# Altium footprint library PcbLib1.PcbLib: 5 footprints
Each footprint in its own frame and in the unit in brackets; x right, y up, seen from the top. Pads: shape width x height; smd on the part's side, far side on the other; paste and mask are expansions set on the pad; w line width, h text height; cw(c..) or ccw(c..) is an arc to the next point about the centre after c.
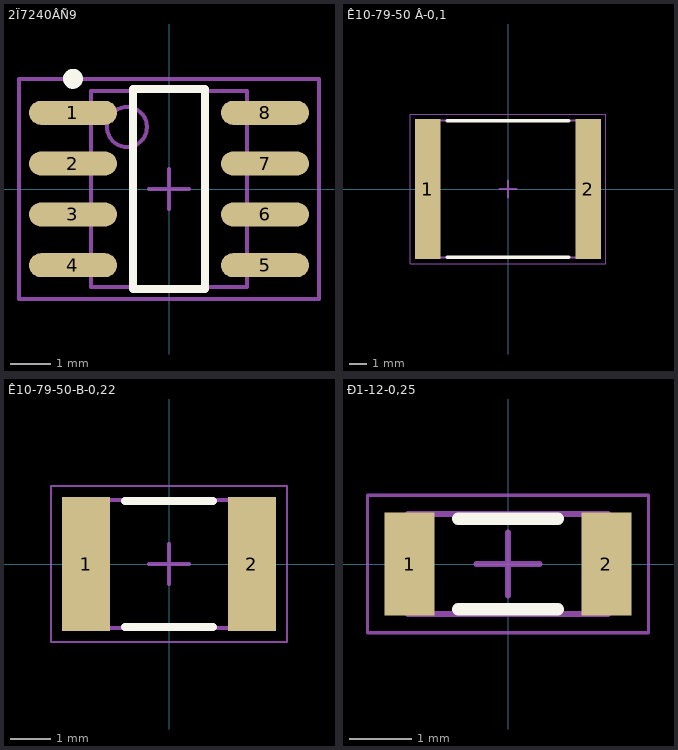
[diagram p0: the footprints below, top view; thin cyan lines are the x and y axes]

## 2Ï7240ÂÑ9 [mm] "8-Pin Small Outline Integrated Circuit 1.27 mm Pitch, IPC Medium Density"
height 1.73
pads (8):
  oval 2.2x0.6 smd: 1(-2.4,1.905) 2(-2.4,0.635) 3(-2.4,-0.635) 4(-2.4,-1.905) 5(2.4,-1.905) 6(2.4,-0.635) 7(2.4,0.635) 8(2.4,1.905)
Top Overlay:
  circle w0.25: c-2.4,2.755 r0.125
  lines w0.2: -0.9,-2.5 -0.9,2.5 0.9,2.5 0.9,-2.5 -0.9,-2.5
Mechanical 13:
  circle w0.1: c-1.05,1.55 r0.5
  lines w0.1: -1.95,-2.45 -1.95,2.45 1.95,2.45 1.95,-2.45 -1.95,-2.45
Mechanical 15:
  lines w0.1: -0.5,0 0.5,0 ; 0,-0.5 0,0.5 ; -3.75,-2.75 -3.75,2.75 3.75,2.75 3.75,-2.75 -3.75,-2.75
3D body: height 1.73, standoff 0, extent -1.95,-2.45 1.95,2.45

## PCBComponent_1 [mm]

## Ê10-79-50 Â-0,1 [mm] "Chip Capacitor, 2-Leads, Body 10,00x8,00mm, IPC Medium Density"
height 1.5
pads (2):
  rect 1.5x8.15 smd: 1(-4.675,0) 2(4.675,0)
Top Overlay:
  lines w0.2: -3.55,-3.975 3.55,-3.975 ; -3.55,3.975 3.55,3.975
Mechanical 13:
  lines w0.1: -5,-4 5,-4 5,4 -5,4 -5,-4
Mechanical 15:
  lines w0.05: -5.7,-4.35 5.7,-4.35 5.7,4.35 -5.7,4.35 -5.7,-4.35
  lines w0.1: -0.5,0 0.5,0 ; 0,-0.5 0,0.5
3D body: height 2, standoff 0, extent 4,-4 5,4
3D body: height 2, standoff 0, extent -5,-4 -4,4
3D body: height 2, standoff 0, extent -4,-4 4,4

## Ê10-79-50-B-0,22 [mm] "Chip Capacitor, 2-Leads, Body 4,50x3,20mm, IPC Medium Density"
height 0.3
pads (2):
  rect 1.2x3.35 smd: 1(-2.075,0) 2(2.075,0)
Top Overlay:
  lines w0.2: -1.1,-1.575 1.1,-1.575 ; -1.1,1.575 1.1,1.575
Mechanical 13:
  lines w0.1: -2.25,-1.6 2.25,-1.6 2.25,1.6 -2.25,1.6 -2.25,-1.6
Mechanical 15:
  lines w0.05: -2.95,-1.95 2.95,-1.95 2.95,1.95 -2.95,1.95 -2.95,-1.95
  lines w0.1: -0.5,0 0.5,0 ; 0,-0.5 0,0.5
3D body: height 2, standoff 0, extent 1.55,-1.6 2.25,1.6
3D body: height 2, standoff 0, extent -2.25,-1.6 -1.55,1.6
3D body: height 2, standoff 0, extent -1.55,-1.6 1.55,1.6

## Ð1-12-0,25 [mm] "Chip Resistor, 2-Leads, Body 3,20x1,60mm, IPC Medium Density"
height 0.015
pads (2):
  rect 0.8x1.65 smd: 1(-1.575,0) 2(1.575,0)
Top Overlay:
  lines w0.2: -0.8,-0.725 0.8,-0.725 ; -0.8,0.725 0.8,0.725
Mechanical 13:
  lines w0.1: -1.6,-0.8 -1.6,0.8 1.6,0.8 1.6,-0.8 -1.6,-0.8
Mechanical 15:
  lines w0.05: -2.25,-1.1 -2.25,1.1 2.25,1.1 2.25,-1.1 -2.25,-1.1
  lines w0.1: -0.5,0 0.5,0 ; 0,-0.5 0,0.5
3D body: height 0.6, standoff 0, extent -1.2,-0.8 1.2,0.8
3D body: height 0.6, standoff 0, extent -1.6,-0.8 -1.2,0.8
3D body: height 0.6, standoff 0, extent 1.2,-0.8 1.6,0.8